# Altium footprint library e-VEREST.PcbLib: 32 footprints (part 1 of 2)
Each footprint in its own frame and in the unit in brackets; x right, y up, seen from the top. Pads: shape width x height; smd on the part's side, far side on the other; paste and mask are expansions set on the pad; w line width, h text height; cw(c..) or ccw(c..) is an arc to the next point about the centre after c.
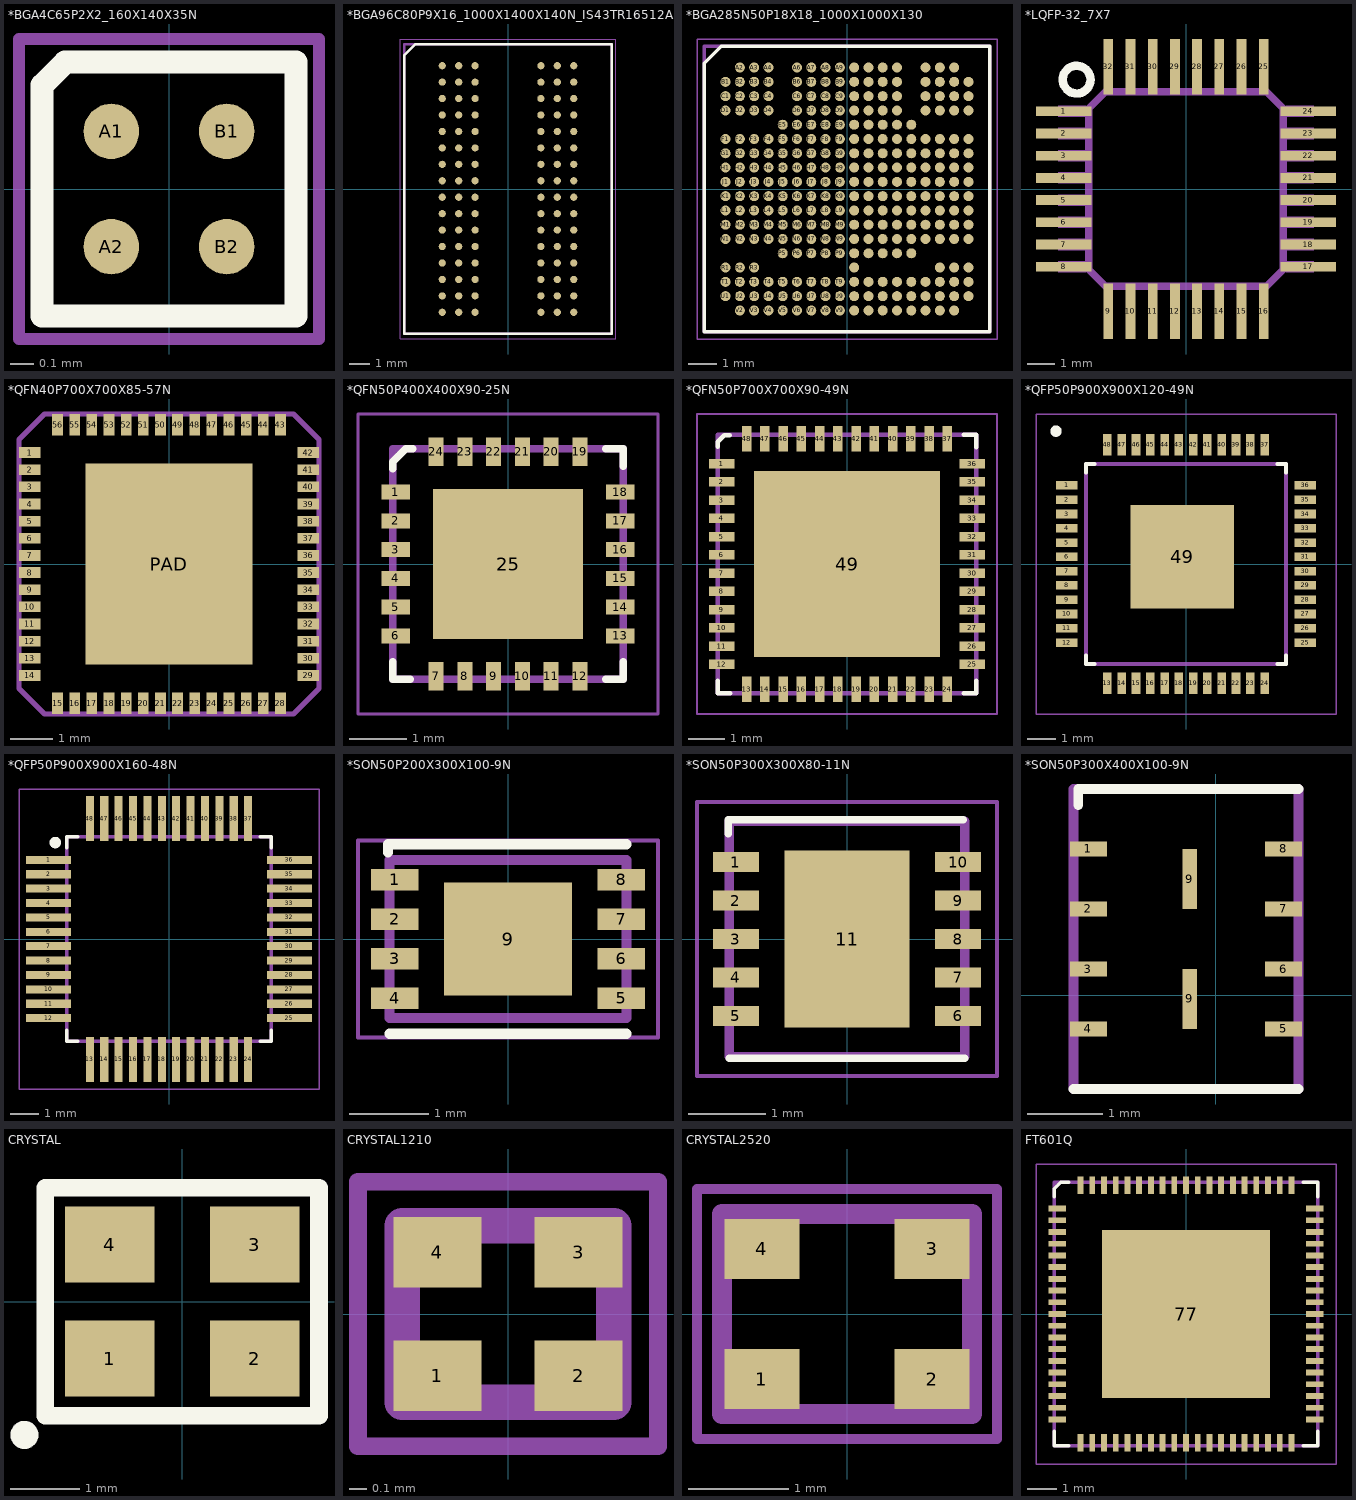
[diagram p0: the footprints below, top view; thin cyan lines are the x and y axes]

## *BGA4C65P2X2_160X140X35N [mm]
pads (4):
  round 0.24 smd: A1(-0.25,0.25) A2(-0.25,-0.25) B1(0.25,0.25) B2(0.25,-0.25)
Top Overlay:
  lines w0.1: -0.55,-0.55 -0.55,0.45 -0.45,0.55 0.55,0.55 0.55,-0.55 -0.55,-0.55
Mechanical 15:
  lines w0.05: -0.65,-0.65 -0.65,0.65 0.65,0.65 0.65,-0.65 -0.65,-0.65
3D body: height 0.5, standoff 0, extent -0.5,-0.5 0.5,0.5

## *BGA96C80P9X16_1000X1400X140N_IS43TR16512AL-125KBL(Primary) [mm]
height 1.4
pads (96):
  round 0.35 smd: A1(-3.2,6) A2(-2.4,6) A3(-1.6,6) A7(1.6,6) A8(2.4,6) A9(3.2,6) B1(-3.2,5.2) B2(-2.4,5.2) B3(-1.6,5.2) B7(1.6,5.2) B8(2.4,5.2) B9(3.2,5.2) C1(-3.2,4.4) C2(-2.4,4.4) C3(-1.6,4.4) C7(1.6,4.4) C8(2.4,4.4) C9(3.2,4.4) D1(-3.2,3.6) D2(-2.4,3.6) D3(-1.6,3.6) D7(1.6,3.6) D8(2.4,3.6) D9(3.2,3.6) E1(-3.2,2.8) E2(-2.4,2.8) E3(-1.6,2.8) E7(1.6,2.8) E8(2.4,2.8) E9(3.2,2.8) F1(-3.2,2) F2(-2.4,2) F3(-1.6,2) F7(1.6,2) F8(2.4,2) F9(3.2,2) G1(-3.2,1.2) G2(-2.4,1.2) G3(-1.6,1.2) G7(1.6,1.2) G8(2.4,1.2) G9(3.2,1.2) H1(-3.2,0.4) H2(-2.4,0.4) H3(-1.6,0.4) H7(1.6,0.4) H8(2.4,0.4) H9(3.2,0.4) J1(-3.2,-0.4) J2(-2.4,-0.4) J3(-1.6,-0.4) J7(1.6,-0.4) J8(2.4,-0.4) J9(3.2,-0.4) K1(-3.2,-1.2) K2(-2.4,-1.2) K3(-1.6,-1.2) K7(1.6,-1.2) K8(2.4,-1.2) K9(3.2,-1.2) L1(-3.2,-2) L2(-2.4,-2) L3(-1.6,-2) L7(1.6,-2) L8(2.4,-2) L9(3.2,-2) M1(-3.2,-2.8) M2(-2.4,-2.8) M3(-1.6,-2.8) M7(1.6,-2.8) M8(2.4,-2.8) M9(3.2,-2.8) N1(-3.2,-3.6) N2(-2.4,-3.6) N3(-1.6,-3.6) N7(1.6,-3.6) N8(2.4,-3.6) N9(3.2,-3.6) P1(-3.2,-4.4) P2(-2.4,-4.4) P3(-1.6,-4.4) P7(1.6,-4.4) P8(2.4,-4.4) P9(3.2,-4.4) R1(-3.2,-5.2) R2(-2.4,-5.2) R3(-1.6,-5.2) R7(1.6,-5.2) R8(2.4,-5.2) R9(3.2,-5.2) T1(-3.2,-6) T2(-2.4,-6) T3(-1.6,-6) T7(1.6,-6) T8(2.4,-6) T9(3.2,-6)
Top Overlay:
  lines w0.127: -5.05,-7.05 5.05,-7.05 5.05,7.05 -4.5,7.05 -5.05,6.5 -5.05,-7.05
Mechanical 4:
  lines w0.127: -5.05,-7.05 -5.05,7.05 ; -5.05,-7.05 5.05,-7.05 ; -5.05,-7.05 -5.05,7.05 ; -5.05,-7.05 5.05,-7.05 ; -5.05,7.05 5.05,7.05 ; -5.05,7.05 5.05,7.05 ; 5.05,-7.05 5.05,7.05 ; 5.05,-7.05 5.05,7.05
Mechanical 15:
  lines w0.05: -5.25,-7.3 -5.25,7.3 5.25,7.3 5.25,-7.3 -5.25,-7.3
3D body: height 1.4, standoff 0, extent -5.05,-7.05 5.05,7.05

## *BGA285N50P18X18_1000X1000X130 [mm]
height 1.3
pads (285):
  round 0.35 smd: A2(-3.75,4.25) A3(-3.25,4.25) A4(-2.75,4.25) A6(-1.75,4.25) A7(-1.25,4.25) A8(-0.75,4.25) A9(-0.25,4.25) A10(0.25,4.25) A11(0.75,4.25) A12(1.25,4.25) A13(1.75,4.25) A15(2.75,4.25) A16(3.25,4.25) A17(3.75,4.25) B1(-4.25,3.75) B2(-3.75,3.75) B3(-3.25,3.75) B4(-2.75,3.75) B6(-1.75,3.75) B7(-1.25,3.75) B8(-0.75,3.75) B9(-0.25,3.75) B10(0.25,3.75) B11(0.75,3.75) B12(1.25,3.75) B13(1.75,3.75) B15(2.75,3.75) B16(3.25,3.75) B17(3.75,3.75) B18(4.25,3.75) C1(-4.25,3.25) C2(-3.75,3.25) C3(-3.25,3.25) C4(-2.75,3.25) C6(-1.75,3.25) C7(-1.25,3.25) C8(-0.75,3.25) C9(-0.25,3.25) C10(0.25,3.25) C11(0.75,3.25) C12(1.25,3.25) C13(1.75,3.25) C15(2.75,3.25) C16(3.25,3.25) C17(3.75,3.25) C18(4.25,3.25) D1(-4.25,2.75) D2(-3.75,2.75) D3(-3.25,2.75) D4(-2.75,2.75) D6(-1.75,2.75) D7(-1.25,2.75) D8(-0.75,2.75) D9(-0.25,2.75) D10(0.25,2.75) D11(0.75,2.75) D12(1.25,2.75) D13(1.75,2.75) D15(2.75,2.75) D16(3.25,2.75) D17(3.75,2.75) D18(4.25,2.75) E5(-2.25,2.25) E6(-1.75,2.25) E7(-1.25,2.25) E8(-0.75,2.25) E9(-0.25,2.25) E10(0.25,2.25) E11(0.75,2.25) E12(1.25,2.25) E13(1.75,2.25) E14(2.25,2.25) F1(-4.25,1.75) F2(-3.75,1.75) F3(-3.25,1.75) F4(-2.75,1.75) F5(-2.25,1.75) F6(-1.75,1.75) F7(-1.25,1.75) F8(-0.75,1.75) F9(-0.25,1.75) F10(0.25,1.75) F11(0.75,1.75) F12(1.25,1.75) F13(1.75,1.75) F14(2.25,1.75) F15(2.75,1.75) F16(3.25,1.75) F17(3.75,1.75) F18(4.25,1.75) G1(-4.25,1.25) G2(-3.75,1.25) G3(-3.25,1.25) G4(-2.75,1.25) G5(-2.25,1.25) G6(-1.75,1.25) G7(-1.25,1.25) G8(-0.75,1.25) G9(-0.25,1.25) G10(0.25,1.25) G11(0.75,1.25) G12(1.25,1.25) G13(1.75,1.25) G14(2.25,1.25) G15(2.75,1.25) G16(3.25,1.25) G17(3.75,1.25) G18(4.25,1.25) H1(-4.25,0.75) H2(-3.75,0.75) H3(-3.25,0.75) H4(-2.75,0.75) H5(-2.25,0.75) H6(-1.75,0.75) H7(-1.25,0.75) H8(-0.75,0.75) H9(-0.25,0.75) H10(0.25,0.75) H11(0.75,0.75) H12(1.25,0.75) H13(1.75,0.75) H14(2.25,0.75) H15(2.75,0.75) H16(3.25,0.75) H17(3.75,0.75) H18(4.25,0.75) J1(-4.25,0.25) J2(-3.75,0.25) J3(-3.25,0.25) J4(-2.75,0.25) J5(-2.25,0.25) J6(-1.75,0.25) J7(-1.25,0.25) J8(-0.75,0.25) J9(-0.25,0.25) J10(0.25,0.25) J11(0.75,0.25) J12(1.25,0.25) J13(1.75,0.25) J14(2.25,0.25) J15(2.75,0.25) J16(3.25,0.25) J17(3.75,0.25) J18(4.25,0.25) K1(-4.25,-0.25) K2(-3.75,-0.25) K3(-3.25,-0.25) K4(-2.75,-0.25) K5(-2.25,-0.25) K6(-1.75,-0.25) K7(-1.25,-0.25) K8(-0.75,-0.25) K9(-0.25,-0.25) K10(0.25,-0.25) K11(0.75,-0.25) K12(1.25,-0.25) K13(1.75,-0.25) K14(2.25,-0.25) K15(2.75,-0.25) K16(3.25,-0.25) K17(3.75,-0.25) K18(4.25,-0.25) L1(-4.25,-0.75) L2(-3.75,-0.75) L3(-3.25,-0.75) L4(-2.75,-0.75) L5(-2.25,-0.75) L6(-1.75,-0.75) L7(-1.25,-0.75) L8(-0.75,-0.75) L9(-0.25,-0.75) L10(0.25,-0.75) L11(0.75,-0.75) L12(1.25,-0.75) L13(1.75,-0.75) L14(2.25,-0.75) L15(2.75,-0.75) L16(3.25,-0.75) L17(3.75,-0.75) L18(4.25,-0.75) M1(-4.25,-1.25) M2(-3.75,-1.25) M3(-3.25,-1.25) M4(-2.75,-1.25) M5(-2.25,-1.25) M6(-1.75,-1.25) M7(-1.25,-1.25) M8(-0.75,-1.25) M9(-0.25,-1.25) M10(0.25,-1.25) M11(0.75,-1.25) M12(1.25,-1.25) M13(1.75,-1.25) M14(2.25,-1.25) M15(2.75,-1.25) M16(3.25,-1.25) M17(3.75,-1.25) M18(4.25,-1.25) N1(-4.25,-1.75) N2(-3.75,-1.75) N3(-3.25,-1.75) N4(-2.75,-1.75) N5(-2.25,-1.75) N6(-1.75,-1.75) N7(-1.25,-1.75) N8(-0.75,-1.75) N9(-0.25,-1.75) N10(0.25,-1.75) N11(0.75,-1.75) N12(1.25,-1.75) N13(1.75,-1.75) N14(2.25,-1.75) N15(2.75,-1.75) N16(3.25,-1.75) N17(3.75,-1.75) N18(4.25,-1.75) P5(-2.25,-2.25) P6(-1.75,-2.25) P7(-1.25,-2.25) P8(-0.75,-2.25) P9(-0.25,-2.25) P10(0.25,-2.25) P11(0.75,-2.25) P12(1.25,-2.25) P13(1.75,-2.25) P14(2.25,-2.25) R1(-4.25,-2.75) R2(-3.75,-2.75) R3(-3.25,-2.75) R10(0.25,-2.75) R16(3.25,-2.75) R17(3.75,-2.75) R18(4.25,-2.75) T1(-4.25,-3.25) T2(-3.75,-3.25) T3(-3.25,-3.25) T4(-2.75,-3.25) T5(-2.25,-3.25) T6(-1.75,-3.25) T7(-1.25,-3.25) T8(-0.75,-3.25) T9(-0.25,-3.25) T10(0.25,-3.25) T11(0.75,-3.25) T12(1.25,-3.25) T13(1.75,-3.25) T14(2.25,-3.25) T15(2.75,-3.25) T16(3.25,-3.25) T17(3.75,-3.25) T18(4.25,-3.25) U1(-4.25,-3.75) U2(-3.75,-3.75) U3(-3.25,-3.75) U4(-2.75,-3.75) U5(-2.25,-3.75) U6(-1.75,-3.75) U7(-1.25,-3.75) U8(-0.75,-3.75) U9(-0.25,-3.75) U10(0.25,-3.75) U11(0.75,-3.75) U12(1.25,-3.75) U13(1.75,-3.75) U14(2.25,-3.75) U15(2.75,-3.75) U16(3.25,-3.75) U17(3.75,-3.75) U18(4.25,-3.75) V2(-3.75,-4.25) V3(-3.25,-4.25) V4(-2.75,-4.25) V5(-2.25,-4.25) V6(-1.75,-4.25) V7(-1.25,-4.25) V8(-0.75,-4.25) V9(-0.25,-4.25) V10(0.25,-4.25) V11(0.75,-4.25) V12(1.25,-4.25) V13(1.75,-4.25) V14(2.25,-4.25) V15(2.75,-4.25) V16(3.25,-4.25) V17(3.75,-4.25)
Top Overlay:
  lines w0.127: -5,-5 -5,4.4 -4.4,5 5,5 5,2.5 5,-5 -5,-5
Mechanical 4:
  lines w0.127: -5,-5 -5,5 ; -5,-5 5,-5 ; -5,-5 -5,5 ; -5,-5 5,-5 ; -5,5 5,5 ; -5,5 5,5 ; 5,-5 5,5 ; 5,-5 5,5
Mechanical 15:
  lines w0.05: -5.25,-5.25 -5.25,5.25 5.25,5.25 5.25,-5.25 -5.25,-5.25
3D body: height 1.3, standoff 0, extent -5,-5 5,5

## *LQFP-32_7X7 [mm]
pads (32):
  rect 2x0.35 smd: 1(-4.4,2.8) 2(-4.4,2) 3(-4.4,1.2) 4(-4.4,0.4) 5(-4.4,-0.4) 6(-4.4,-1.2) 7(-4.4,-2) 8(-4.4,-2.8) 17(4.4,-2.8) 18(4.4,-2) 19(4.4,-1.2) 20(4.4,-0.4) 21(4.4,0.4) 22(4.4,1.2) 23(4.4,2) 24(4.4,2.8)
  rect 0.35x2 smd: 9(-2.8,-4.4) 10(-2,-4.4) 11(-1.2,-4.4) 12(-0.4,-4.4) 13(0.4,-4.4) 14(1.2,-4.4) 15(2,-4.4) 16(2.8,-4.4) 25(2.8,4.4) 26(2,4.4) 27(1.2,4.4) 28(0.4,4.4) 29(-0.4,4.4) 30(-1.2,4.4) 31(-2,4.4) 32(-2.8,4.4)
Top Overlay:
  circle w0.305: c-3.937,3.937 r0.5
Mechanical 4:
  region: 3.6,3 4.6,3 4.6,2.6 3.6,2.6
  region: 3.6,2.2 4.6,2.2 4.6,1.8 3.6,1.8
  region: 3.6,1.4 4.6,1.4 4.6,1 3.6,1
  region: 3.6,0.6 4.6,0.6 4.6,0.2 3.6,0.2
  region: 3.6,-0.2 4.6,-0.2 4.6,-0.6 3.6,-0.6
  region: 3.6,-1 4.6,-1 4.6,-1.4 3.6,-1.4
  region: 3.6,-1.8 4.6,-1.8 4.6,-2.2 3.6,-2.2
  region: 3.6,-2.6 4.6,-2.6 4.6,-3 3.6,-3
  region: -4.6,-2.6 -3.6,-2.6 -3.6,-3 -4.6,-3
  region: -4.6,-1.8 -3.6,-1.8 -3.6,-2.2 -4.6,-2.2
  region: -4.6,-1 -3.6,-1 -3.6,-1.4 -4.6,-1.4
  region: -4.6,-0.2 -3.6,-0.2 -3.6,-0.6 -4.6,-0.6
  region: -4.6,0.6 -3.6,0.6 -3.6,0.2 -4.6,0.2
  region: -4.6,1.4 -3.6,1.4 -3.6,1 -4.6,1
  region: -4.6,2.2 -3.6,2.2 -3.6,1.8 -4.6,1.8
  region: -4.6,3 -3.6,3 -3.6,2.6 -4.6,2.6
  region: 3.6,3 4.6,3 4.6,2.6 3.6,2.6
  region: 3.6,2.2 4.6,2.2 4.6,1.8 3.6,1.8
  region: 3.6,1.4 4.6,1.4 4.6,1 3.6,1
  region: 3.6,0.6 4.6,0.6 4.6,0.2 3.6,0.2
  region: 3.6,-0.2 4.6,-0.2 4.6,-0.6 3.6,-0.6
  region: 3.6,-1 4.6,-1 4.6,-1.4 3.6,-1.4
  region: 3.6,-1.8 4.6,-1.8 4.6,-2.2 3.6,-2.2
  region: 3.6,-2.6 4.6,-2.6 4.6,-3 3.6,-3
  region: -4.6,-2.6 -3.6,-2.6 -3.6,-3 -4.6,-3
  region: -4.6,-1.8 -3.6,-1.8 -3.6,-2.2 -4.6,-2.2
  region: -4.6,-1 -3.6,-1 -3.6,-1.4 -4.6,-1.4
  region: -4.6,-0.2 -3.6,-0.2 -3.6,-0.6 -4.6,-0.6
  region: -4.6,0.6 -3.6,0.6 -3.6,0.2 -4.6,0.2
  region: -4.6,1.4 -3.6,1.4 -3.6,1 -4.6,1
  region: -4.6,2.2 -3.6,2.2 -3.6,1.8 -4.6,1.8
  region: -4.6,3 -3.6,3 -3.6,2.6 -4.6,2.6
  lines w0.254: -3.5,-2.9 -2.9,-3.5 ; -3.5,-2.9 -3.5,2.9 ; -3.5,-2.9 -2.9,-3.5 ; -3.5,-2.9 -3.5,2.9 ; -3.5,2.9 -2.9,3.5 ; -3.5,2.9 -2.9,3.5 ; -2.9,-3.5 2.9,-3.5 ; -2.9,-3.5 2.9,-3.5 ; -2.9,3.5 2.9,3.5 ; -2.9,3.5 2.9,3.5 ; 2.9,-3.5 3.5,-2.9 ; 2.9,-3.5 3.5,-2.9 ; 2.9,3.5 3.5,2.9 ; 2.9,3.5 3.5,2.9 ; 3.5,-2.9 3.5,2.9 ; 3.5,-2.9 3.5,2.9

## *QFN40P700X700X85-57N [mm]
pads (57):
  rect 0.5x0.25 smd: 1(-3.25,2.6) 2(-3.25,2.2) 3(-3.25,1.8) 4(-3.25,1.4) 5(-3.25,1) 6(-3.25,0.6) 7(-3.25,0.2) 8(-3.25,-0.2) 9(-3.25,-0.6) 10(-3.25,-1) 11(-3.25,-1.4) 12(-3.25,-1.8) 13(-3.25,-2.2) 14(-3.25,-2.6) 29(3.25,-2.6) 30(3.25,-2.2) 31(3.25,-1.8) 32(3.25,-1.4) 33(3.25,-1) 34(3.25,-0.6) 35(3.25,-0.2) 36(3.25,0.2) 37(3.25,0.6) 38(3.25,1) 39(3.25,1.4) 40(3.25,1.8) 41(3.25,2.2) 42(3.25,2.6)
  rect 0.25x0.5 smd: 15(-2.6,-3.25) 16(-2.2,-3.25) 17(-1.8,-3.25) 18(-1.4,-3.25) 19(-1,-3.25) 20(-0.6,-3.25) 21(-0.2,-3.25) 22(0.2,-3.25) 23(0.6,-3.25) 24(1,-3.25) 25(1.4,-3.25) 26(1.8,-3.25) 27(2.2,-3.25) 28(2.6,-3.25) 43(2.6,3.25) 44(2.2,3.25) 45(1.8,3.25) 46(1.4,3.25) 47(1,3.25) 48(0.6,3.25) 49(0.2,3.25) 50(-0.2,3.25) 51(-0.6,3.25) 52(-1,3.25) 53(-1.4,3.25) 54(-1.8,3.25) 55(-2.2,3.25) 56(-2.6,3.25)
  rect 3.9x4.7 smd: PAD(0,0)
Mechanical 4:
  lines w0.127: -3.5,-2.9 -3.5,2.9 ; -3.5,-2.9 -2.9,-3.5 ; -3.5,-2.9 -3.5,2.9 ; -3.5,-2.9 -2.9,-3.5 ; -3.5,2.9 -2.9,3.5 ; -3.5,2.9 -2.9,3.5 ; -2.9,-3.5 2.9,-3.5 ; -2.9,-3.5 2.9,-3.5 ; -2.9,3.5 2.9,3.5 ; -2.9,3.5 2.9,3.5 ; 2.9,-3.5 3.5,-2.9 ; 2.9,-3.5 3.5,-2.9 ; 2.9,3.5 3.5,2.9 ; 2.9,3.5 3.5,2.9 ; 3.5,-2.9 3.5,2.9 ; 3.5,-2.9 3.5,2.9
3D body: height 0.9, standoff 0, extent -3.5,-3.5 3.5,3.5

## *QFN50P400X400X90-25N [mm]
pads (25):
  rect 0.5x0.26 smd: 1(-1.95,1.25) 2(-1.95,0.75) 3(-1.95,0.25) 4(-1.95,-0.25) 5(-1.95,-0.75) 6(-1.95,-1.25) 13(1.95,-1.25) 14(1.95,-0.75) 15(1.95,-0.25) 16(1.95,0.25) 17(1.95,0.75) 18(1.95,1.25)
  rect 0.26x0.5 smd: 7(-1.25,-1.95) 8(-0.75,-1.95) 9(-0.25,-1.95) 10(0.25,-1.95) 11(0.75,-1.95) 12(1.25,-1.95) 19(1.25,1.95) 20(0.75,1.95) 21(0.25,1.95) 22(-0.25,1.95) 23(-0.75,1.95) 24(-1.25,1.95)
  rect 2.6x2.6 smd: 25(0,0)
Top Overlay:
  lines w0.127: -2,-1.7 -2,-2 -1.7,-2 ; -2,1.65 -2,1.777 -1.777,2 -1.655,2 ; 1.7,-2 2,-2 2,-1.7 ; 1.7,2 2,2 2,1.7
Top Paste:
  region: -0.82,0.82 0.82,0.82 0.82,-0.82 -0.82,-0.82
Mechanical 4:
  lines w0.127: -2,-2 -2,2 ; -2,-2 2,-2 ; -2,-2 -2,2 ; -2,-2 2,-2 ; -2,2 2,2 ; -2,2 2,2 ; 2,-2 2,2 ; 2,-2 2,2
Mechanical 15:
  lines w0.05: -2.605,-2.605 -2.605,2.605 2.605,2.605 2.605,-2.605 -2.605,-2.605
3D body: height 0.9, standoff 0, extent -2,-2 2,2

## *QFN50P700X700X90-49N [mm]
pads (49):
  rect 0.7x0.26 smd: 1(-3.435,2.75) 2(-3.435,2.25) 3(-3.435,1.75) 4(-3.435,1.25) 5(-3.435,0.75) 6(-3.435,0.25) 7(-3.435,-0.25) 8(-3.435,-0.75) 9(-3.435,-1.25) 10(-3.435,-1.75) 11(-3.435,-2.25) 12(-3.435,-2.75) 25(3.435,-2.75) 26(3.435,-2.25) 27(3.435,-1.75) 28(3.435,-1.25) 29(3.435,-0.75) 30(3.435,-0.25) 31(3.435,0.25) 32(3.435,0.75) 33(3.435,1.25) 34(3.435,1.75) 35(3.435,2.25) 36(3.435,2.75)
  rect 0.26x0.7 smd: 13(-2.75,-3.435) 14(-2.25,-3.435) 15(-1.75,-3.435) 16(-1.25,-3.435) 17(-0.75,-3.435) 18(-0.25,-3.435) 19(0.25,-3.435) 20(0.75,-3.435) 21(1.25,-3.435) 22(1.75,-3.435) 23(2.25,-3.435) 24(2.75,-3.435) 37(2.75,3.435) 38(2.25,3.435) 39(1.75,3.435) 40(1.25,3.435) 41(0.75,3.435) 42(0.25,3.435) 43(-0.25,3.435) 44(-0.75,3.435) 45(-1.25,3.435) 46(-1.75,3.435) 47(-2.25,3.435) 48(-2.75,3.435)
  rect 5.1x5.1 smd: 49(0,0)
Top Overlay:
  lines w0.127: -3.55,-3.2 -3.55,-3.55 -3.2,-3.55 ; -3.544,3.212 -3.544,3.356 -3.364,3.536 -3.216,3.536 ; 3.2,-3.55 3.55,-3.55 3.55,-3.2 ; 3.2,3.55 3.55,3.55 3.55,3.2
Top Paste:
  region: 0.465,-0.465 2.085,-0.465 2.085,-2.085 0.465,-2.085
  region: -2.085,-0.465 -0.465,-0.465 -0.465,-2.085 -2.085,-2.085
  region: 0.465,2.085 2.085,2.085 2.085,0.465 0.465,0.465
  region: -2.085,2.085 -0.465,2.085 -0.465,0.465 -2.085,0.465
Mechanical 4:
  lines w0.127: -3.55,-3.55 -3.55,3.55 ; -3.55,-3.55 3.55,-3.55 ; -3.55,-3.55 -3.55,3.55 ; -3.55,-3.55 3.55,-3.55 ; -3.55,3.55 3.55,3.55 ; -3.55,3.55 3.55,3.55 ; 3.55,-3.55 3.55,3.55 ; 3.55,-3.55 3.55,3.55
Mechanical 15:
  lines w0.05: -4.115,-4.115 -4.115,4.115 4.115,4.115 4.115,-4.115 -4.115,-4.115
3D body: height 0.9, standoff 0, extent -3.6,-3.6 3.6,3.6

## *QFP50P900X900X120-49N [mm]
pads (49):
  rect 0.75x0.3 smd: 1(-4.17,2.75) 2(-4.17,2.25) 3(-4.17,1.75) 4(-4.17,1.25) 5(-4.17,0.75) 6(-4.17,0.25) 7(-4.17,-0.25) 8(-4.17,-0.75) 9(-4.17,-1.25) 10(-4.17,-1.75) 11(-4.17,-2.25) 12(-4.17,-2.75) 25(4.17,-2.75) 26(4.17,-2.25) 27(4.17,-1.75) 28(4.17,-1.25) 29(4.17,-0.75) 30(4.17,-0.25) 31(4.17,0.25) 32(4.17,0.75) 33(4.17,1.25) 34(4.17,1.75) 35(4.17,2.25) 36(4.17,2.75)
  rect 0.3x0.75 smd: 13(-2.75,-4.17) 14(-2.25,-4.17) 15(-1.75,-4.17) 16(-1.25,-4.17) 17(-0.75,-4.17) 18(-0.25,-4.17) 19(0.25,-4.17) 20(0.75,-4.17) 21(1.25,-4.17) 22(1.75,-4.17) 23(2.25,-4.17) 24(2.75,-4.17) 37(2.75,4.17) 38(2.25,4.17) 39(1.75,4.17) 40(1.25,4.17) 41(0.75,4.17) 42(0.25,4.17) 43(-0.25,4.17) 44(-0.75,4.17) 45(-1.25,4.17) 46(-1.75,4.17) 47(-2.25,4.17) 48(-2.75,4.17)
  rect 3.62x3.62 smd: 49(-0.127,0.254)
Top Overlay:
  circle w0.2: c-4.55,4.65 r0.1
  lines w0.127: -3.5,-3.2 -3.5,-3.5 -3.2,-3.5 ; -3.5,3.2 -3.5,3.5 -3.2,3.5 ; 3.2,-3.5 3.5,-3.5 3.5,-3.2 ; 3.2,3.5 3.5,3.5 3.5,3.2
Top Paste:
  region: -1.201,1.2 1.2,1.2 1.2,-1.201 -1.201,-1.201
Mechanical 4:
  lines w0.127: -3.5,-3.5 -3.5,3.5 ; -3.5,-3.5 3.5,-3.5 ; -3.5,-3.5 -3.5,3.5 ; -3.5,-3.5 3.5,-3.5 ; -3.5,3.5 3.5,3.5 ; -3.5,3.5 3.5,3.5 ; 3.5,-3.5 3.5,3.5 ; 3.5,-3.5 3.5,3.5
Mechanical 15:
  lines w0.05: -5.25,-5.25 5.25,-5.25 5.25,5.25 -5.25,5.25 -5.25,-5.25
3D body: height 0.9, standoff 0, extent -4.55,-4.55 4.55,4.55

## *QFP50P900X900X160-48N [mm]
pads (48):
  rect 1.56x0.28 smd: 1(-4.18,2.75) 2(-4.18,2.25) 3(-4.18,1.75) 4(-4.18,1.25) 5(-4.18,0.75) 6(-4.18,0.25) 7(-4.18,-0.25) 8(-4.18,-0.75) 9(-4.18,-1.25) 10(-4.18,-1.75) 11(-4.18,-2.25) 12(-4.18,-2.75) 25(4.18,-2.75) 26(4.18,-2.25) 27(4.18,-1.75) 28(4.18,-1.25) 29(4.18,-0.75) 30(4.18,-0.25) 31(4.18,0.25) 32(4.18,0.75) 33(4.18,1.25) 34(4.18,1.75) 35(4.18,2.25) 36(4.18,2.75)
  rect 0.28x1.56 smd: 13(-2.75,-4.18) 14(-2.25,-4.18) 15(-1.75,-4.18) 16(-1.25,-4.18) 17(-0.75,-4.18) 18(-0.25,-4.18) 19(0.25,-4.18) 20(0.75,-4.18) 21(1.25,-4.18) 22(1.75,-4.18) 23(2.25,-4.18) 24(2.75,-4.18) 37(2.75,4.18) 38(2.25,4.18) 39(1.75,4.18) 40(1.25,4.18) 41(0.75,4.18) 42(0.25,4.18) 43(-0.25,4.18) 44(-0.75,4.18) 45(-1.25,4.18) 46(-1.75,4.18) 47(-2.25,4.18) 48(-2.75,4.18)
Top Overlay:
  circle w0.2: c-3.95,3.35 r0.1
  lines w0.127: -3.55,-3.17 -3.55,-3.55 -3.17,-3.55 ; -3.55,3.17 -3.55,3.55 -3.17,3.55 ; 3.17,-3.55 3.55,-3.55 3.55,-3.17 ; 3.17,3.55 3.55,3.55 3.55,3.17
Mechanical 4:
  lines w0.127: -3.55,-3.55 -3.55,3.55 ; -3.55,-3.55 3.55,-3.55 ; -3.55,-3.55 -3.55,3.55 ; -3.55,-3.55 3.55,-3.55 ; -3.55,3.55 3.55,3.55 ; -3.55,3.55 3.55,3.55 ; 3.55,-3.55 3.55,3.55 ; 3.55,-3.55 3.55,3.55
Mechanical 15:
  lines w0.05: -5.21,-5.21 5.21,-5.21 5.21,5.21 -5.21,5.21 -5.21,-5.21

## *SON50P200X300X100-9N [mm]
pads (9):
  rect 0.6x0.27 smd: 1(-1.435,0.75) 2(-1.435,0.25) 3(-1.435,-0.25) 4(-1.435,-0.75) 5(1.435,-0.75) 6(1.435,-0.25) 7(1.435,0.25) 8(1.435,0.75)
  rect 1.625x1.425 smd: 9(0,0)
Top Overlay:
  lines w0.127: -1.519,1.096 -1.519,1.2 1.5,1.2 ; -1.5,-1.2 1.5,-1.2
Top Paste:
  region: 0.075,0.49 0.665,0.49 0.665,-0.49 0.075,-0.49
  region: -0.665,0.49 -0.075,0.49 -0.075,-0.49 -0.665,-0.49
Mechanical 4:
  lines w0.127: -1.5,-1 -1.5,1 ; -1.5,-1 1.5,-1 ; -1.5,-1 -1.5,1 ; -1.5,-1 1.5,-1 ; -1.5,1 1.5,1 ; -1.5,1 1.5,1 ; 1.5,-1 1.5,1 ; 1.5,-1 1.5,1
Mechanical 15:
  lines w0.05: -1.9,-1.25 -1.9,1.25 1.9,1.25 1.9,-1.25 -1.9,-1.25
3D body: height 0.75, standoff 0, extent -1.5,-1 1.5,1

## *SON50P300X300X80-11N [mm]
pads (11):
  rect 0.6x0.26 smd: 1(-1.445,1) 2(-1.445,0.5) 3(-1.445,0) 4(-1.445,-0.5) 5(-1.445,-1) 6(1.445,-1) 7(1.445,-0.5) 8(1.445,0) 9(1.445,0.5) 10(1.445,1)
  rect 1.625x2.3 smd: 11(0,0)
Top Overlay:
  lines w0.1: -1.544,1.371 -1.544,1.55 1.51,1.55 ; -1.53,-1.551 1.53,-1.551
Top Paste:
  region: -0.625,1.045 -0.095,1.045 -0.095,0.095 -0.625,0.095
  region: -0.625,-0.095 -0.095,-0.095 -0.095,-1.045 -0.625,-1.045
  region: 0.095,1.045 0.625,1.045 0.625,0.095 0.095,0.095
  region: 0.095,-0.095 0.625,-0.095 0.625,-1.045 0.095,-1.045
Mechanical 4:
  lines w0.127: -1.53,-1.53 1.53,-1.53 ; -1.53,-1.53 -1.53,1.53 ; -1.53,-1.53 1.53,-1.53 ; -1.53,-1.53 -1.53,1.53 ; -1.53,1.53 1.53,1.53 ; -1.53,1.53 1.53,1.53 ; 1.53,-1.53 1.53,1.53 ; 1.53,-1.53 1.53,1.53
Mechanical 15:
  lines w0.05: -1.95,-1.78 -1.95,1.78 1.95,1.78 1.95,-1.78 -1.95,-1.78
3D body: height 0.8, standoff 0, extent -1.6,-1.6 1.6,1.55

## *SON50P300X400X100-9N [mm]
pads (10):
  rect 0.5x0.2 smd: 1(-1.7,1.95) 2(-1.7,1.15) 3(-1.7,0.35) 4(-1.7,-0.45) 5(0.9,-0.45) 6(0.9,0.35) 7(0.9,1.15) 8(0.9,1.95)
  rect 0.2x0.8 smd: 9(-0.35,-0.05) 9(-0.35,1.55)
Top Overlay:
  lines w0.127: -1.9,-1.25 1.1,-1.25 ; -1.84,2.53 -1.84,2.75 -1.541,2.75 1.1,2.75
Top Paste:
  region: -0.45,0.35 -0.25,0.35 -0.25,-0.45 -0.45,-0.45
  region: -0.45,1.95 -0.25,1.95 -0.25,1.15 -0.45,1.15
Mechanical 4:
  lines w0.127: -1.9,-1.25 1.1,-1.25 1.1,2.75 -1.9,2.75 -1.9,-1.25
Mechanical 15:
  lines w0.05: -1.9,-1.25 -1.9,2.75 1.1,2.75 1.1,-1.25 -1.9,-1.25
3D body: height 0.55, standoff 0, extent -1.9,-1.25 1.1,2.75

## CRYSTAL [mm]
pads (4):
  rect 1.3x1.1 smd: 1(-1.05,-0.825) 2(1.05,-0.825) 3(1.05,0.825) 4(-1.05,0.825)
Top Overlay:
  circle w0.25: c-2.286,-1.93 r0.078
  lines w0.254: -1.981,-1.65 -1.981,1.651 1.981,1.651 1.981,-1.65 -1.981,-1.65
3D body "ASE.STEP": height 1.2, standoff 0, extent -1.6,-1.25 1.6,1.25

## CRYSTAL1210 [mm]
pads (4):
  rect 0.5x0.4 smd: 1(-0.4,-0.35) 2(0.4,-0.35) 3(0.4,0.35) 4(-0.4,0.35)
Mechanical 13:
  lines w0.2: -0.6,-0.5 0.6,-0.5 0.6,0.5 -0.6,0.5 -0.6,-0.5
Mechanical 15:
  lines w0.1: -0.85,-0.75 0.85,-0.75 0.85,0.75 -0.85,0.75 -0.85,-0.75
3D body "ABM13W-52.0000MHZ-5-B2G-T5.stp": height 0.5, standoff 0, extent -0.61,-0.51 0.61,0.51

## CRYSTAL2520 [mm]
pads (4):
  rect 0.75x0.6 smd: 1(-0.85,-0.65) 2(0.85,-0.65) 3(0.85,0.65) 4(-0.85,0.65)
Mechanical 13:
  lines w0.2: -1.25,-1 1.25,-1 1.25,1 -1.25,1 -1.25,-1
Mechanical 15:
  lines w0.1: -1.5,-1.25 1.5,-1.25 1.5,1.25 -1.5,1.25 -1.5,-1.25
3D body: height 0.5, standoff 0, extent -1.25,-1 1.25,1

## FT601Q [mm]
pads (77):
  rect 0.6x0.2 smd: 1(-4.4,3.6) 2(-4.4,3.2) 3(-4.4,2.8) 4(-4.4,2.4) 5(-4.4,2) 6(-4.4,1.6) 7(-4.4,1.2) 8(-4.4,0.8) 9(-4.4,0.4) 10(-4.4,0) 11(-4.4,-0.4) 12(-4.4,-0.8) 13(-4.4,-1.2) 14(-4.4,-1.6) 15(-4.4,-2) 16(-4.4,-2.4) 17(-4.4,-2.8) 18(-4.4,-3.2) 19(-4.4,-3.6) 39(4.4,-3.6) 40(4.4,-3.2) 41(4.4,-2.8) 42(4.4,-2.4) 43(4.4,-2) 44(4.4,-1.6) 45(4.4,-1.2) 46(4.4,-0.8) 47(4.4,-0.4) 48(4.4,0) 49(4.4,0.4) 50(4.4,0.8) 51(4.4,1.2) 52(4.4,1.6) 53(4.4,2) 54(4.4,2.4) 55(4.4,2.8) 56(4.4,3.2) 57(4.4,3.6)
  rect 0.2x0.6 smd: 20(-3.6,-4.4) 21(-3.2,-4.4) 22(-2.8,-4.4) 23(-2.4,-4.4) 24(-2,-4.4) 25(-1.6,-4.4) 26(-1.2,-4.4) 27(-0.8,-4.4) 28(-0.4,-4.4) 29(0,-4.4) 30(0.4,-4.4) 31(0.8,-4.4) 32(1.2,-4.4) 33(1.6,-4.4) 34(2,-4.4) 35(2.4,-4.4) 36(2.8,-4.4) 37(3.2,-4.4) 38(3.6,-4.4) 58(3.6,4.4) 59(3.2,4.4) 60(2.8,4.4) 61(2.4,4.4) 62(2,4.4) 63(1.6,4.4) 64(1.2,4.4) 65(0.8,4.4) 66(0.4,4.4) 67(0,4.4) 68(-0.4,4.4) 69(-0.8,4.4) 70(-1.2,4.4) 71(-1.6,4.4) 72(-2,4.4) 73(-2.4,4.4) 74(-2.8,4.4) 75(-3.2,4.4) 76(-3.6,4.4)
  rect 5.75x5.75 smd: 77(0,0)
Top Overlay:
  lines w0.127: -4.5,-4 -4.5,-4.5 -4,-4.5 ; -4.5,4 -4.5,4.275 -4.275,4.5 -4,4.5 ; 4,-4.5 4.5,-4.5 4.5,-4 ; 4,4.5 4.5,4.5 4.5,4
Top Paste:
  region: 1.266,-1.345 2.615,-1.345 2.615,-2.858 1.266,-2.858
  region: -0.675,-1.345 0.675,-1.345 0.675,-2.857 -0.675,-2.857
  region: -2.618,-1.345 -1.265,-1.345 -1.265,-2.858 -2.618,-2.858
  region: 1.267,2.855 2.615,2.855 2.615,1.347 1.267,1.347
  region: -0.676,2.855 0.675,2.855 0.675,1.347 -0.676,1.347
  region: -2.62,2.855 -1.265,2.855 -1.265,1.348 -2.62,1.348
  region: 1.266,0.755 2.615,0.755 2.615,-0.755 1.266,-0.755
  region: -2.619,0.755 -1.265,0.755 -1.265,-0.756 -2.619,-0.756
  region: -0.676,0.755 0.675,0.755 0.675,-0.756 -0.676,-0.756
Mechanical 4:
  lines w0.127: -4.5,-4.5 -4.5,4.5 ; -4.5,-4.5 4.5,-4.5 ; -4.5,-4.5 -4.5,4.5 ; -4.5,-4.5 4.5,-4.5 ; -4.5,4.5 4.5,4.5 ; -4.5,4.5 4.5,4.5 ; 4.5,-4.5 4.5,4.5 ; 4.5,-4.5 4.5,4.5
Mechanical 15:
  lines w0.05: -5.12,-5.12 -5.12,5.12 5.12,5.12 5.12,-5.12 -5.12,-5.12
3D body "FT601Q_1.step": height 1, standoff 0, extent -4.56,-4.56 4.56,4.56